# EAGLE library part CPL-CON-HEADER-0.1IN-7P-2-M (library TinWhiskers)
Header: 0.1" Pitch, 7x2Pins; Package: Thru-Hole, Vertical; Datasheet:
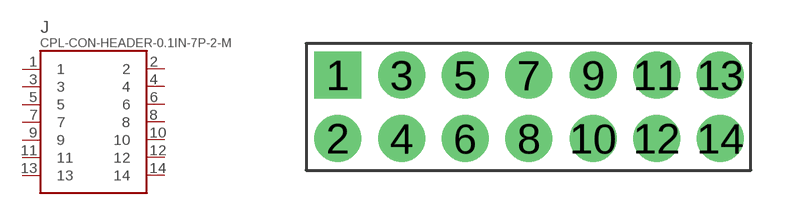
[diagram p41: symbol with the pads of CON-HDR-7POS-2-M; footprint CON-HDR-7POS-2-M]

Designator prefix J

## CPL-CON-HEADER-0.1IN-7P-2-M  [CON-HDR-7POS-2-M]
1  1
2  2
3  3
4  4
5  5
6  6
7  7
8  8
9  9
10  10
11  11
12  12
13  13
14  14

## Footprint CON-HDR-7POS-2-M (pad centres in mm)
Connector: Header, 0.1" Pitch, 14-Pos. (2-Row); Package: Thru-Hole, Vertical; Datasheet:
drill 1.25 square: 1 -7.62,1.27
drill 1.25: 2 -7.62,-1.27; 3 -5.07,1.27; 4 -5.07,-1.27; 5 -2.53,1.27; 6 -2.53,-1.27; 7 0.01,1.27; 8 0.01,-1.27; 9 2.58,1.27; 10 2.58,-1.27; 11 5.12,1.27; 12 5.12,-1.27; 13 7.66,1.27; 14 7.66,-1.27